# Altium schematic symbol library LTR-303ALS-01.SchLib: 1 symbol
Pins are listed as number, name and electrical type; pins without a type are passive.

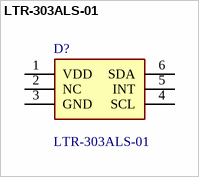
[diagram p0: symbol LTR-303ALS-01]

## LTR-303ALS-01
designator D?
Ambient Light Sensors Ambient Light Photo Sensor; Manufacturer_Name: Lite-On; Geometry.Height: 0mm; Manufacturer_Part_Number: LTR-303ALS-01; Mouser Part Number: 859-LTR-303ALS-01; Mouser Price/Stock: https://www.mouser.co.uk/ProductDetail/Lite-On/LTR-303ALS-01?qs=Ml%2FaxAEbwm%252Bm%252BetMkBDC8g%3D%3D; Arrow Part Number: LTR-303ALS-01; Arrow Price/Stock: https://www.arrow.com/en/products/ltr-303als-01/lite-on-technology?region=nac; Datasheet Link: http://optoelectronics.liteon.com/upload/download/DS86-2013-0004/LTR-303ALS-01_DS_V1.pdf
footprint LTR303ALS01
pins: 1 VDD, 2 NC, 3 GND, 4 SCL, 5 INT, 6 SDA